# Altium footprint library capEL_1uF_50v.PcbLib: 1 footprints
Each footprint in its own frame and in the unit in brackets; x right, y up, seen from the top. Pads: shape width x height; smd on the part's side, far side on the other; paste and mask are expansions set on the pad; w line width, h text height; cw(c..) or ccw(c..) is an arc to the next point about the centre after c.
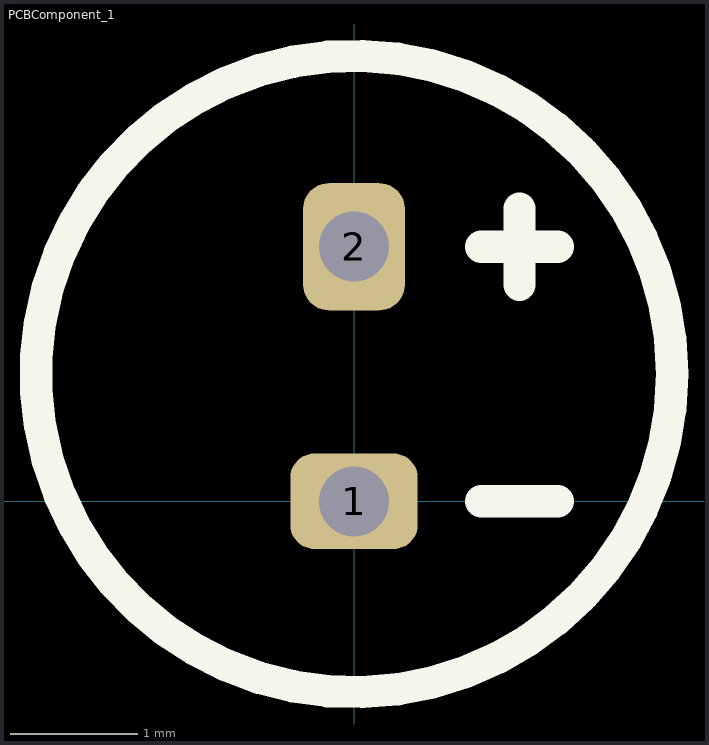
[diagram p0: the footprint, top view; thin cyan lines are the x and y axes]

## PCBComponent_1 [mm]
pads (2):
  rrect50% 1x0.75 hole 0.55: 1(0,0)
  rrect50% 0.8x1 hole 0.55: 2(0,2)
Top Overlay:
  circle w0.254: c0,1 r2.5
  lines w0.254: 1,0 1.6,0 ; 1,2 1.6,2 ; 1.3,1.7 1.3,2.3